# Altium footprint library U96_PcbLib.PcbLib: 6 footprints
Each footprint in its own frame and in the unit in brackets; x right, y up, seen from the top. Pads: shape width x height; smd on the part's side, far side on the other; paste and mask are expansions set on the pad; w line width, h text height; cw(c..) or ccw(c..) is an arc to the next point about the centre after c.
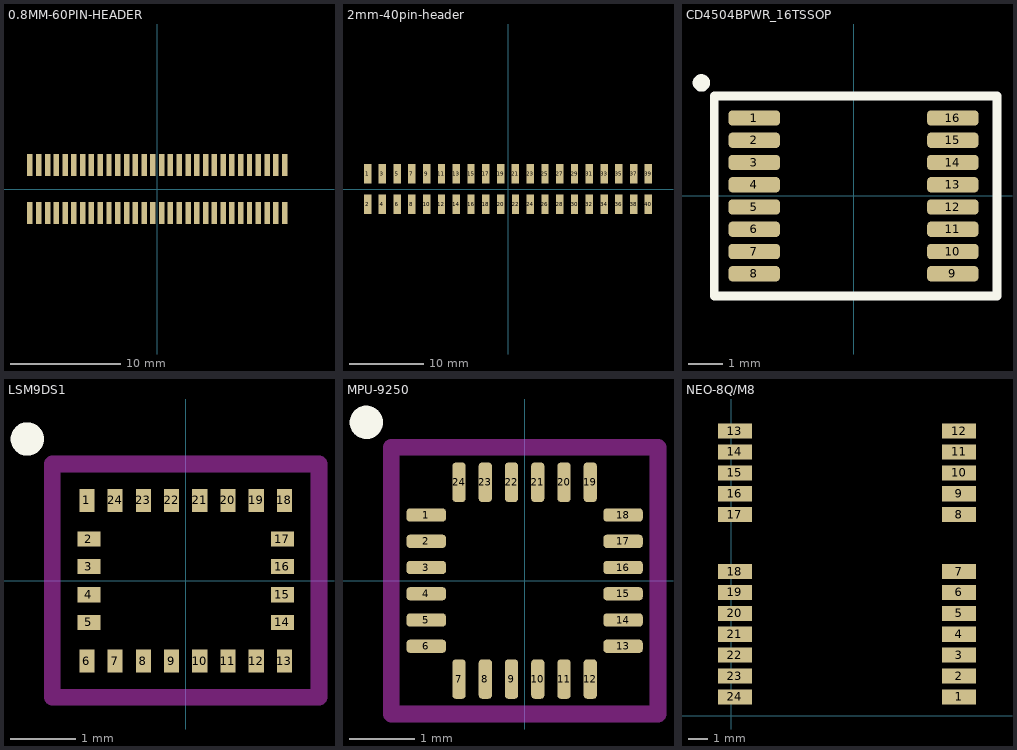
[diagram p0: the footprints below, top view; thin cyan lines are the x and y axes]

## 0.8MM-60PIN-HEADER [mm]
height 4.6
pads (60):
  rect 0.5x2 smd: 1(-11.6,2.2) 2(-11.6,-2.2) 3(-10.8,2.2) 4(-10.8,-2.2) 5(-10,2.2) 6(-10,-2.2) 7(-9.2,2.2) 8(-9.2,-2.2) 9(-8.4,2.2) 10(-8.4,-2.2) 11(-7.6,2.2) 12(-7.6,-2.2) 13(-6.8,2.2) 14(-6.8,-2.2) 15(-6,2.2) 16(-6,-2.2) 17(-5.2,2.2) 18(-5.2,-2.2) 19(-4.4,2.2) 20(-4.4,-2.2) 21(-3.6,2.2) 22(-3.6,-2.2) 23(-2.8,2.2) 24(-2.8,-2.2) 25(-2,2.2) 26(-2,-2.2) 27(-1.2,2.2) 28(-1.2,-2.2) 29(-0.4,2.2) 30(-0.4,-2.2) 31(0.4,2.2) 32(0.4,-2.2) 33(1.2,2.2) 34(1.2,-2.2) 35(2,2.2) 36(2,-2.2) 37(2.8,2.2) 38(2.8,-2.2) 39(3.6,2.2) 40(3.6,-2.2) 41(4.4,2.2) 42(4.4,-2.2) 43(5.2,2.2) 44(5.2,-2.2) 45(6,2.2) 46(6,-2.2) 47(6.8,2.2) 48(6.8,-2.2) 49(7.6,2.2) 50(7.6,-2.2) 51(8.4,2.2) 52(8.4,-2.2) 53(9.2,2.2) 54(9.2,-2.2) 55(10,2.2) 56(10,-2.2) 57(10.8,2.2) 58(10.8,-2.2) 59(11.6,2.2) 60(11.6,-2.2)
Top Layer:
  pour cut-out: 14.732,-0.508

## 2mm-40pin-header [mm]
height 6.5
pads (40):
  rect 1x2.6 smd: 1(-19,2.05) 2(-19,-2.05) 3(-17,2.05) 4(-17,-2.05) 5(-15,2.05) 6(-15,-2.05) 7(-13,2.05) 8(-13,-2.05) 9(-11,2.05) 10(-11,-2.05) 11(-9,2.05) 12(-9,-2.05) 13(-7,2.05) 14(-7,-2.05) 15(-5,2.05) 16(-5,-2.05) 17(-3,2.05) 18(-3,-2.05) 19(-1,2.05) 20(-1,-2.05) 21(1,2.05) 22(1.016,-2.05) 23(3,2.05) 24(3,-2.05) 25(5,2.05) 26(5,-2.05) 27(7,2.05) 28(7,-2.05) 29(9,2.05) 30(9,-2.05) 31(11,2.05) 32(11,-2.05) 33(13,2.05) 34(13,-2.05) 35(15,2.05) 36(15,-2.05) 37(17,2.05) 38(17,-2.05) 39(19,2.05) 40(19,-2.05)

## CD4504BPWR_16TSSOP [mm]
pads (16):
  rrect50% 1.5x0.45 smd: 1(-2.9,2.275) 2(-2.9,1.625) 3(-2.9,0.975) 4(-2.9,0.325) 5(-2.9,-0.325) 6(-2.9,-0.975) 7(-2.9,-1.625) 8(-2.9,-2.275) 9(2.9,-2.275) 10(2.9,-1.625) 11(2.9,-0.975) 12(2.9,-0.325) 13(2.9,0.325) 14(2.9,0.975) 15(2.9,1.625) 16(2.9,2.275)
Top Overlay:
  circle w0.254: c-4.445,3.302 r0.127
  lines w0.254: -4.064,-2.921 4.191,-2.921 4.191,2.921 -4.064,2.921 -4.064,-2.921

## LSM9DS1 [mm]
height 1
pads (24):
  rect 0.23x0.35 smd mask+0.05: 1(-1.505,1.225) 6(-1.505,-1.225) 7(-1.075,-1.225) 8(-0.645,-1.225) 9(-0.215,-1.225) 10(0.215,-1.225) 11(0.645,-1.225) 12(1.075,-1.225) 13(1.505,-1.225) 18(1.505,1.225) 19(1.075,1.225) 20(0.645,1.225) 21(0.215,1.225) 22(-0.215,1.225) 23(-0.645,1.225) 24(-1.075,1.225)
  rect 0.35x0.23 smd mask+0.05: 2(-1.475,0.635) 3(-1.475,0.215) 4(-1.475,-0.215) 5(-1.475,-0.635) 14(1.475,-0.635) 15(1.475,-0.215) 16(1.475,0.215) 17(1.475,0.635)
Top Overlay:
  circle w0.254: c-2.413,2.159 r0.127
Keep-Out Layer:
  lines w0.254: -2.032,-1.778 -2.032,1.778 2.032,1.778 2.032,-1.778 -2.032,-1.778

## MPU-9250 [mm]
height 1
pads (24):
  rrect50% 0.6x0.2 smd mask+0.05: 1(-1.5,1) 2(-1.5,0.6) 3(-1.5,0.2) 4(-1.5,-0.2) 5(-1.5,-0.6) 6(-1.5,-1) 14(1.5,-0.6) 15(1.5,-0.2) 16(1.5,0.2) 17(1.5,0.6) 18(1.5,1)
  rrect50% 0.2x0.6 smd mask+0.05: 7(-1,-1.5) 8(-0.6,-1.5) 9(-0.2,-1.5) 10(0.2,-1.5) 11(0.6,-1.5) 12(1,-1.5) 19(1,1.5) 20(0.6,1.5) 21(0.2,1.5) 22(-0.2,1.5) 23(-0.6,1.5) 24(-1,1.5)
  rrect50% 0.6x0.2 smd paste+0 mask+0.05: 13(1.5,-1)
Top Overlay:
  circle w0.254: c-2.413,2.413 r0.127
Keep-Out Layer:
  lines w0.254: -2.032,-2.032 2.032,-2.032 2.032,2.032 -2.032,2.032 -2.032,-2.032

## NEO-8Q/M8 [mm]
height 3
pads (24):
  rect 1.8x0.8 smd mask+0.1: 1(12,1)
  rect 1.8x0.8 smd: 2(12,2.1) 3(12,3.2) 4(12,4.3) 5(12,5.4) 6(12,6.5) 7(12,7.6) 8(12,10.6) 9(12,11.7) 10(12,12.8) 11(12,13.9) 12(12,15) 13(0.2,15) 14(0.2,13.9) 15(0.2,12.8) 16(0.2,11.7) 17(0.2,10.6) 18(0.2,7.6) 19(0.2,6.5) 20(0.2,5.4) 21(0.2,4.3) 22(0.2,3.2) 23(0.2,2.1) 24(0.2,1)